# Altium footprint library LCC - LeadlessChipCarriers.PcbLib: 8 footprints
Each footprint in its own frame and in the unit in brackets; x right, y up, seen from the top. Pads: shape width x height; smd on the part's side, far side on the other; paste and mask are expansions set on the pad; w line width, h text height; cw(c..) or ccw(c..) is an arc to the next point about the centre after c.
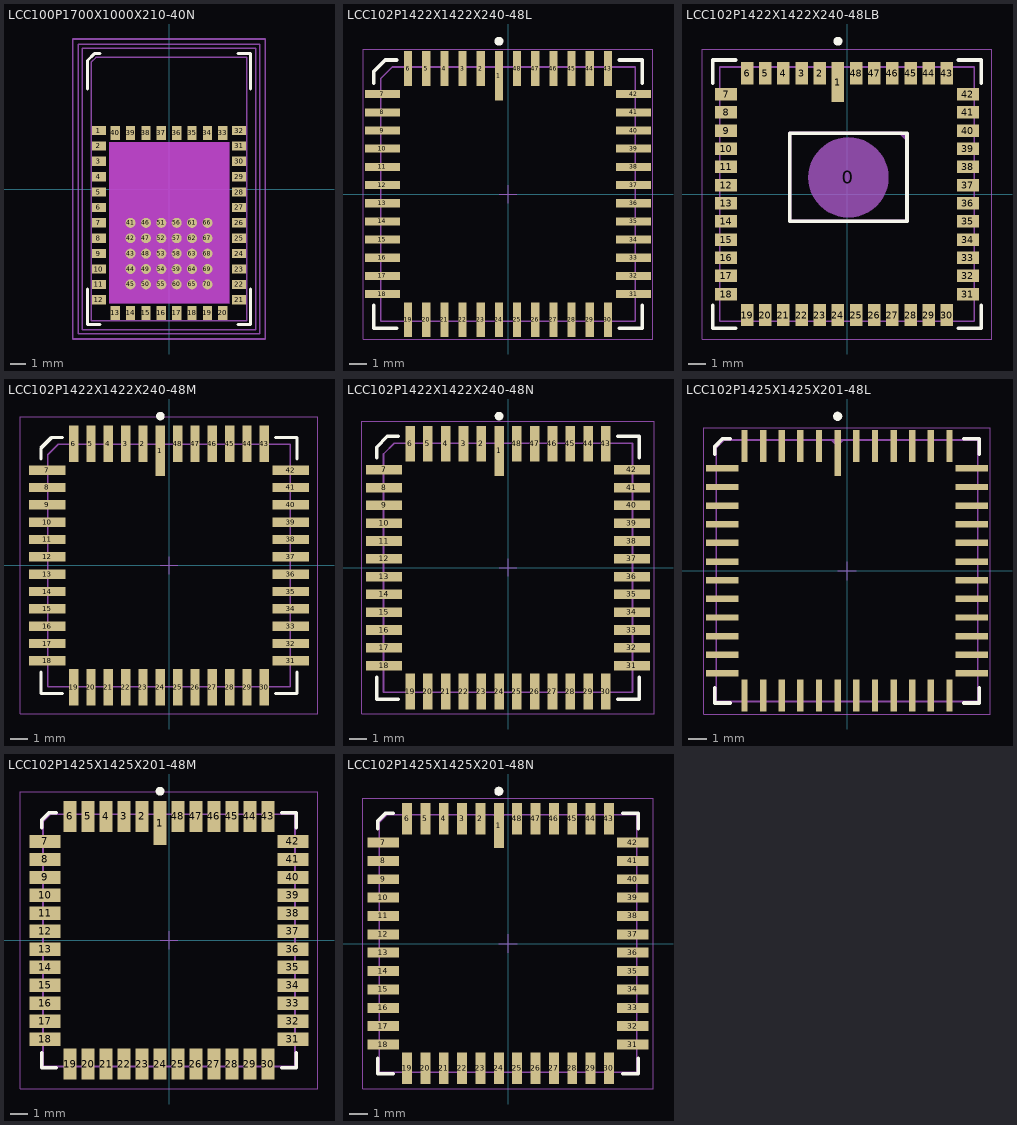
[diagram p0: the footprints below, top view; thin cyan lines are the x and y axes]

## LCC100P1700X1000X210-40N [mm] "LCC, 40-Pins, Body 17.0x10.0mm (max), Pitch 1.00mm, IPC Medium Density"
height 2.1
pads (70):
  rect 0.9x0.6 smd: 1(-4.55,3.8) 2(-4.55,2.8) 3(-4.55,1.8) 4(-4.55,0.8) 5(-4.55,-0.2) 6(-4.55,-1.2) 7(-4.55,-2.2) 8(-4.55,-3.2) 9(-4.55,-4.2) 10(-4.55,-5.2) 11(-4.55,-6.2) 12(-4.55,-7.2) 21(4.55,-7.2) 22(4.55,-6.2) 23(4.55,-5.2) 24(4.55,-4.2) 25(4.55,-3.2) 26(4.55,-2.2) 27(4.55,-1.2) 28(4.55,-0.2) 29(4.55,0.8) 30(4.55,1.8) 31(4.55,2.8) 32(4.55,3.8)
  rect 0.6x0.9 smd: 13(-3.5,-8.05) 14(-2.5,-8.05) 15(-1.5,-8.05) 16(-0.5,-8.05) 17(0.5,-8.05) 18(1.5,-8.05) 19(2.5,-8.05) 20(3.5,-8.05) 33(3.5,3.65) 34(2.5,3.65) 35(1.5,3.65) 36(0.5,3.65) 37(-0.5,3.65) 38(-1.5,3.65) 39(-2.5,3.65) 40(-3.5,3.65)
  round 0.65 smd: 41(-2.5,-2.2) 42(-2.5,-3.2) 43(-2.5,-4.2) 44(-2.5,-5.2) 45(-2.5,-6.2) 46(-1.5,-2.2) 47(-1.5,-3.2) 48(-1.5,-4.2) 49(-1.5,-5.2) 50(-1.5,-6.2) 51(-0.5,-2.2) 52(-0.5,-3.2) 53(-0.5,-4.2) 54(-0.5,-5.2) 55(-0.5,-6.2) 56(0.5,-2.2) 57(0.5,-3.2) 58(0.5,-4.2) 59(0.5,-5.2) 60(0.5,-6.2) 61(1.5,-2.2) 62(1.5,-3.2) 63(1.5,-4.2) 64(1.5,-5.2) 65(1.5,-6.2) 66(2.5,-2.2) 67(2.5,-3.2) 68(2.5,-4.2) 69(2.5,-5.2) 70(2.5,-6.2)
Top Overlay:
  lines w0.2: -5.3,-6.5 -5.3,-8.8 -4.5,-8.8 ; -5.3,6.5 -5.3,8.35 -4.85,8.8 -4.5,8.8 ; 4.5,-8.8 5.3,-8.8 5.3,-6.5 ; 4.5,8.8 5.3,8.8 5.3,6.5
Outline keep-out:
  region: -3.9,-7.425 -3.9,3.05 3.9,3.05 3.9,-7.425
TopBody:
  lines w0.1: -5.05,-8.55 5.05,-8.55 5.05,8.55 -4.75,8.55 -5.05,8.25 -5.05,-8.55
  text ".Designator" at -0.825,-0.175 h0.5
TopCourtyard:
  lines w0.1: -0.5,0 0,0 ; 0,-0.5 0,0 ; 0,0.5 0,0 ; 0.5,0 0,0 ; -6.25,-9.75 -6.25,9.75 6.25,9.75 6.25,-9.75 -6.25,-9.75 ; -5.9,-9.4 5.9,-9.4 5.9,9.4 -5.9,9.4 -5.9,-9.4 ; -5.65,-9.15 5.65,-9.15 5.65,9.15 -5.65,9.15 -5.65,-9.15
3D body: height 2.1, standoff 0, extent -5.05,-8.55 5.05,8.55

## LCC102P1422X1422X240-48L [mm] "LCC, 48-Pins, Body 15.0x15.0mm (max), Pitch 1.02mm, IPC High Density"
height 2.4
pads (48):
  rect 0.45x2.75 smd: 1(-0.508,6.625)
  rect 0.45x1.95 smd: 2(-1.524,7.025) 3(-2.54,7.025) 4(-3.556,7.025) 5(-4.572,7.025) 6(-5.588,7.025) 19(-5.588,-7.025) 20(-4.572,-7.025) 21(-3.556,-7.025) 22(-2.54,-7.025) 23(-1.524,-7.025) 24(-0.508,-7.025) 25(0.508,-7.025) 26(1.524,-7.025) 27(2.54,-7.025) 28(3.556,-7.025) 29(4.572,-7.025) 30(5.588,-7.025) 43(5.588,7.025) 44(4.572,7.025) 45(3.556,7.025) 46(2.54,7.025) 47(1.524,7.025) 48(0.508,7.025)
  rect 1.95x0.45 smd: 7(-7.025,5.588) 8(-7.025,4.572) 9(-7.025,3.556) 10(-7.025,2.54) 11(-7.025,1.524) 12(-7.025,0.508) 13(-7.025,-0.508) 14(-7.025,-1.524) 15(-7.025,-2.54) 16(-7.025,-3.556) 17(-7.025,-4.572) 18(-7.025,-5.588) 31(7.025,-5.588) 32(7.025,-4.572) 33(7.025,-3.556) 34(7.025,-2.54) 35(7.025,-1.524) 36(7.025,-0.508) 37(7.025,0.508) 38(7.025,1.524) 39(7.025,2.54) 40(7.025,3.556) 41(7.025,4.572) 42(7.025,5.588)
Top Overlay:
  circle w0.25: c-0.508,8.55 r0.125
  lines w0.2: -7.5,-6.215 -7.5,-7.5 -6.215,-7.5 ; -7.5,6.215 -7.5,6.857 -6.857,7.5 -6.215,7.5 ; 6.215,-7.5 7.5,-7.5 7.5,-6.215 ; 6.215,7.5 7.5,7.5 7.5,6.215
TopBody:
  lines w0.1: -7.11,-7.11 7.11,-7.11 7.11,7.11 -6.468,7.11 -7.11,6.468 -7.11,-7.11
TopCourtyard:
  lines w0.05: -0.5,0 0.5,0 ; 0,-0.5 0,0.5 ; -8.1,-8.1 8.1,-8.1 8.1,8.1 -8.1,8.1 -8.1,-8.1
3D body: height 2.4, standoff 0, extent -7.11,-7.11 7.11,7.11

## LCC102P1422X1422X240-48LB [mm] "MT9T001 Camera LCC, 48-Pins, Body 15.0x15.0mm (max), Pitch 1.02mm, IPC High Density"
height 2.4
pads (49):
  round 4.5 on Mech15: 0(0.078,0.934)
  rect 0.7x2.244 smd: 1(-0.508,6.262)
  rect 0.7x1.244 smd: 2(-1.524,6.76) 3(-2.54,6.76) 4(-3.556,6.76) 5(-4.572,6.76) 6(-5.588,6.76) 19(-5.588,-6.76) 20(-4.572,-6.76) 21(-3.556,-6.76) 22(-2.54,-6.76) 23(-1.524,-6.76) 24(-0.508,-6.76) 25(0.508,-6.76) 26(1.524,-6.76) 27(2.54,-6.76) 28(3.556,-6.76) 29(4.572,-6.76) 30(5.588,-6.76) 43(5.588,6.76) 44(4.572,6.76) 45(3.556,6.76) 46(2.54,6.76) 47(1.524,6.76) 48(0.508,6.76)
  rect 1.244x0.7 smd: 7(-6.76,5.588) 8(-6.76,4.572) 9(-6.76,3.556) 10(-6.76,2.54) 11(-6.76,1.524) 12(-6.76,0.508) 13(-6.76,-0.508) 14(-6.76,-1.524) 15(-6.76,-2.54) 16(-6.76,-3.556) 17(-6.76,-4.572) 18(-6.76,-5.588) 31(6.76,-5.588) 32(6.76,-4.572) 33(6.76,-3.556) 34(6.76,-2.54) 35(6.76,-1.524) 36(6.76,-0.508) 37(6.76,0.508) 38(6.76,1.524) 39(6.76,2.54) 40(6.76,3.556) 41(6.76,4.572) 42(6.76,5.588)
Top Overlay:
  circle w0.25: c-0.508,8.55 r0.125
  lines w0.2: -7.5,-6.215 -7.5,-7.5 -6.215,-7.5 ; -7.5,6.215 -7.5,7.5 -6.215,7.5 ; 6.215,-7.5 7.5,-7.5 7.5,-6.215 ; 6.215,7.5 7.5,7.5 7.5,6.215 ; -3.197,-1.526 -3.197,3.394 3.353,3.394 3.353,-1.526 -3.197,-1.526
TopBody:
  lines w0.1: -7.11,-7.11 7.11,-7.11 7.11,7.11 -7.11,7.11 -7.11,-7.11
  lines w0.2: -3.197,-1.526 3.353,-1.526 3.353,3.072 3.031,3.394 -3.197,3.394 -3.197,-1.526
  text "Top" at -1,4.5 h0.6
  text "Bottom" at -1.5,-3.5 h0.6
TopCourtyard:
  lines w0.05: -0.5,0 0,0 ; -0.422,0.934 0.078,0.934 ; 0,-0.5 0,0 ; 0,0.5 0,0 ; 0.078,0.434 0.078,0.934 ; 0.078,1.434 0.078,0.934 ; 0.5,0 0,0 ; 0.578,0.934 0.078,0.934 ; -8.1,-8.1 8.1,-8.1 8.1,8.1 -8.1,8.1 -8.1,-8.1
  text "Mechanical center" at -9,-1.5 h1.2
  text "Optical center" at 0.5,1.5 h1.2
3D body: height 2.41, standoff 0, extent -3.198,-1.527 3.354,3.395
3D body: height 2.4, standoff 0, extent -7.11,-7.11 7.11,7.11

## LCC102P1422X1422X240-48M [mm] "LCC, 48-Pins, Body 15.0x15.0mm (max), Pitch 1.02mm, IPC Low Density"
height 2.4
pads (48):
  rect 0.55x2.95 smd: 1(-0.508,6.725)
  rect 0.55x2.15 smd: 2(-1.524,7.125) 3(-2.54,7.125) 4(-3.556,7.125) 5(-4.572,7.125) 6(-5.588,7.125) 19(-5.588,-7.125) 20(-4.572,-7.125) 21(-3.556,-7.125) 22(-2.54,-7.125) 23(-1.524,-7.125) 24(-0.508,-7.125) 25(0.508,-7.125) 26(1.524,-7.125) 27(2.54,-7.125) 28(3.556,-7.125) 29(4.572,-7.125) 30(5.588,-7.125) 43(5.588,7.125) 44(4.572,7.125) 45(3.556,7.125) 46(2.54,7.125) 47(1.524,7.125) 48(0.508,7.125)
  rect 2.15x0.55 smd: 7(-7.125,5.588) 8(-7.125,4.572) 9(-7.125,3.556) 10(-7.125,2.54) 11(-7.125,1.524) 12(-7.125,0.508) 13(-7.125,-0.508) 14(-7.125,-1.524) 15(-7.125,-2.54) 16(-7.125,-3.556) 17(-7.125,-4.572) 18(-7.125,-5.588) 31(7.125,-5.588) 32(7.125,-4.572) 33(7.125,-3.556) 34(7.125,-2.54) 35(7.125,-1.524) 36(7.125,-0.508) 37(7.125,0.508) 38(7.125,1.524) 39(7.125,2.54) 40(7.125,3.556) 41(7.125,4.572) 42(7.125,5.588)
Top Overlay:
  circle w0.25: c-0.508,8.75 r0.125
  lines w0.2: -7.5,-6.265 -7.5,-7.5 -6.265,-7.5 ; -7.5,6.265 -7.5,6.883 -6.883,7.5 -6.265,7.5 ; 6.265,-7.5 7.5,-7.5 7.5,-6.265 ; 6.265,7.5 7.5,7.5 7.5,6.265
TopBody:
  lines w0.1: -7.11,-7.11 -7.11,6.492 -6.492,7.11 7.11,7.11 7.11,-7.11 -7.11,-7.11
TopCourtyard:
  lines w0.05: -0.5,0 0.5,0 ; 0,-0.5 0,0.5 ; -8.7,-8.7 -8.7,8.7 8.7,8.7 8.7,-8.7 -8.7,-8.7
3D body: height 2.4, standoff 0, extent -7.11,-7.11 7.11,7.11

## LCC102P1422X1422X240-48N [mm] "LCC, 48-Pins, Body 15.0x15.0mm (max), Pitch 1.02mm, IPC Medium Density"
height 2.4
pads (48):
  rect 0.55x2.85 smd: 1(-0.508,6.675)
  rect 0.55x2.05 smd: 2(-1.524,7.075) 3(-2.54,7.075) 4(-3.556,7.075) 5(-4.572,7.075) 6(-5.588,7.075) 19(-5.588,-7.075) 20(-4.572,-7.075) 21(-3.556,-7.075) 22(-2.54,-7.075) 23(-1.524,-7.075) 24(-0.508,-7.075) 25(0.508,-7.075) 26(1.524,-7.075) 27(2.54,-7.075) 28(3.556,-7.075) 29(4.572,-7.075) 30(5.588,-7.075) 43(5.588,7.075) 44(4.572,7.075) 45(3.556,7.075) 46(2.54,7.075) 47(1.524,7.075) 48(0.508,7.075)
  rect 2.05x0.55 smd: 7(-7.075,5.588) 8(-7.075,4.572) 9(-7.075,3.556) 10(-7.075,2.54) 11(-7.075,1.524) 12(-7.075,0.508) 13(-7.075,-0.508) 14(-7.075,-1.524) 15(-7.075,-2.54) 16(-7.075,-3.556) 17(-7.075,-4.572) 18(-7.075,-5.588) 31(7.075,-5.588) 32(7.075,-4.572) 33(7.075,-3.556) 34(7.075,-2.54) 35(7.075,-1.524) 36(7.075,-0.508) 37(7.075,0.508) 38(7.075,1.524) 39(7.075,2.54) 40(7.075,3.556) 41(7.075,4.572) 42(7.075,5.588)
Top Overlay:
  circle w0.25: c-0.508,8.65 r0.125
  lines w0.2: -7.5,-6.265 -7.5,-7.5 -6.265,-7.5 ; -7.5,6.265 -7.5,6.883 -6.883,7.5 -6.265,7.5 ; 6.265,-7.5 7.5,-7.5 7.5,-6.265 ; 6.265,7.5 7.5,7.5 7.5,6.265
TopBody:
  lines w0.1: -7.11,-7.11 -7.11,6.492 -6.492,7.11 7.11,7.11 7.11,-7.11 -7.11,-7.11
TopCourtyard:
  lines w0.05: -0.5,0 0.5,0 ; 0,-0.5 0,0.5 ; -8.35,-8.35 -8.35,8.35 8.35,8.35 8.35,-8.35 -8.35,-8.35
3D body: height 2.4, standoff 0, extent -7.11,-7.11 7.11,7.11

## LCC102P1425X1425X201-48L [mm] "LCC, 48-Pins, Body 14.4x14.4mm (max), Pitch 1.02mm, IPC High Density"
height 2.007
pads (48):
  rect 0.35x2.5 smd: 1(-0.508,6.425)
  rect 0.35x1.75 smd: 2(-1.524,6.8) 3(-2.54,6.8) 4(-3.556,6.8) 5(-4.572,6.8) 6(-5.588,6.8) 19(-5.588,-6.8) 20(-4.572,-6.8) 21(-3.556,-6.8) 22(-2.54,-6.8) 23(-1.524,-6.8) 24(-0.508,-6.8) 25(0.508,-6.8) 26(1.524,-6.8) 27(2.54,-6.8) 28(3.556,-6.8) 29(4.572,-6.8) 30(5.588,-6.8) 43(5.588,6.8) 44(4.572,6.8) 45(3.556,6.8) 46(2.54,6.8) 47(1.524,6.8) 48(0.508,6.8)
  rect 1.75x0.35 smd: 7(-6.8,5.588) 8(-6.8,4.572) 9(-6.8,3.556) 10(-6.8,2.54) 11(-6.8,1.524) 12(-6.8,0.508) 13(-6.8,-0.508) 14(-6.8,-1.524) 15(-6.8,-2.54) 16(-6.8,-3.556) 17(-6.8,-4.572) 18(-6.8,-5.588) 31(6.8,-5.588) 32(6.8,-4.572) 33(6.8,-3.556) 34(6.8,-2.54) 35(6.8,-1.524) 36(6.8,-0.508) 37(6.8,0.508) 38(6.8,1.524) 39(6.8,2.54) 40(6.8,3.556) 41(6.8,4.572) 42(6.8,5.588)
Top Overlay:
  circle w0.25: c-0.508,8.425 r0.125
  lines w0.2: -7.2,-6.365 -7.2,-7.2 -6.365,-7.2 ; -7.2,6.365 -7.2,6.783 -6.783,7.2 -6.365,7.2 ; 6.365,-7.2 7.2,-7.2 7.2,-6.365 ; 6.365,7.2 7.2,7.2 7.2,6.365
TopBody:
  lines w0.1: -0.825,7.125 -0.525,6.825 -0.225,7.125 ; -0.725,7.125 -0.525,6.925 -0.325,7.125 ; -0.625,7.125 -0.525,7.025 -0.425,7.125 ; -7.125,-7.125 -7.125,6.708 -6.708,7.125 7.125,7.125 7.125,-7.125 -7.125,-7.125
  text ".Designator" at -0.635,-0.254 h0.5
TopCourtyard:
  lines w0.05: -0.5,0 0.5,0 ; 0,-0.5 0,0.5 ; -7.8,-7.8 -7.8,7.8 7.8,7.8 7.8,-7.8 -7.8,-7.8
3D body: height 2.01, standoff 0, extent -7.125,-7.125 7.125,7.125

## LCC102P1425X1425X201-48M [mm] "LCC, 48-Pins, Body 14.4x14.4mm (max), Pitch 1.02mm, IPC Low Density"
height 2.007
pads (48):
  rect 0.75x2.5 smd: 1(-0.508,6.625)
  rect 0.75x1.75 smd: 2(-1.524,7) 3(-2.54,7) 4(-3.556,7) 5(-4.572,7) 6(-5.588,7) 19(-5.588,-7) 20(-4.572,-7) 21(-3.556,-7) 22(-2.54,-7) 23(-1.524,-7) 24(-0.508,-7) 25(0.508,-7) 26(1.524,-7) 27(2.54,-7) 28(3.556,-7) 29(4.572,-7) 30(5.588,-7) 43(5.588,7) 44(4.572,7) 45(3.556,7) 46(2.54,7) 47(1.524,7) 48(0.508,7)
  rect 1.75x0.75 smd: 7(-7,5.588) 8(-7,4.572) 9(-7,3.556) 10(-7,2.54) 11(-7,1.524) 12(-7,0.508) 13(-7,-0.508) 14(-7,-1.524) 15(-7,-2.54) 16(-7,-3.556) 17(-7,-4.572) 18(-7,-5.588) 31(7,-5.588) 32(7,-4.572) 33(7,-3.556) 34(7,-2.54) 35(7,-1.524) 36(7,-0.508) 37(7,0.508) 38(7,1.524) 39(7,2.54) 40(7,3.556) 41(7,4.572) 42(7,5.588)
Top Overlay:
  circle w0.25: c-0.508,8.425 r0.125
  lines w0.2: -7.2,-6.365 -7.2,-7.2 -6.365,-7.2 ; -7.2,6.365 -7.2,6.783 -6.783,7.2 -6.365,7.2 ; 6.365,-7.2 7.2,-7.2 7.2,-6.365 ; 6.365,7.2 7.2,7.2 7.2,6.365
TopBody:
  lines w0.1: -0.8,7.125 -0.5,6.825 -0.2,7.125 ; -0.7,7.125 -0.5,6.925 -0.3,7.125 ; -0.6,7.125 -0.5,7.025 -0.4,7.125 ; -7.125,-7.125 7.125,-7.125 7.125,7.125 -6.708,7.125 -7.125,6.708 -7.125,-7.125
  text ".Designator" at -0.635,-0.254 h0.5
TopCourtyard:
  lines w0.05: -0.5,0 0.5,0 ; 0,-0.5 0,0.5 ; -8.4,-8.4 8.4,-8.4 8.4,8.4 -8.4,8.4 -8.4,-8.4
3D body: height 2.01, standoff 0, extent -7.125,-7.125 7.125,7.125

## LCC102P1425X1425X201-48N [mm] "LCC, 48-Pins, Body 14.4x14.4mm (max), Pitch 1.02mm, IPC Medium Density"
height 2.007
pads (48):
  rect 0.55x2.5 smd: 1(-0.508,6.525)
  rect 0.55x1.75 smd: 2(-1.524,6.9) 3(-2.54,6.9) 4(-3.556,6.9) 5(-4.572,6.9) 6(-5.588,6.9) 19(-5.588,-6.9) 20(-4.572,-6.9) 21(-3.556,-6.9) 22(-2.54,-6.9) 23(-1.524,-6.9) 24(-0.508,-6.9) 25(0.508,-6.9) 26(1.524,-6.9) 27(2.54,-6.9) 28(3.556,-6.9) 29(4.572,-6.9) 30(5.588,-6.9) 43(5.588,6.9) 44(4.572,6.9) 45(3.556,6.9) 46(2.54,6.9) 47(1.524,6.9) 48(0.508,6.9)
  rect 1.75x0.55 smd: 7(-6.9,5.588) 8(-6.9,4.572) 9(-6.9,3.556) 10(-6.9,2.54) 11(-6.9,1.524) 12(-6.9,0.508) 13(-6.9,-0.508) 14(-6.9,-1.524) 15(-6.9,-2.54) 16(-6.9,-3.556) 17(-6.9,-4.572) 18(-6.9,-5.588) 31(6.9,-5.588) 32(6.9,-4.572) 33(6.9,-3.556) 34(6.9,-2.54) 35(6.9,-1.524) 36(6.9,-0.508) 37(6.9,0.508) 38(6.9,1.524) 39(6.9,2.54) 40(6.9,3.556) 41(6.9,4.572) 42(6.9,5.588)
Top Overlay:
  circle w0.25: c-0.508,8.425 r0.125
  lines w0.2: -7.2,-6.365 -7.2,-7.2 -6.365,-7.2 ; -7.2,6.365 -7.2,6.783 -6.783,7.2 -6.365,7.2 ; 6.365,-7.2 7.2,-7.2 7.2,-6.365 ; 6.365,7.2 7.2,7.2 7.2,6.365
TopBody:
  lines w0.1: -0.8,7.125 -0.5,6.825 -0.2,7.125 ; -0.7,7.125 -0.5,6.925 -0.3,7.125 ; -0.6,7.125 -0.5,7.025 -0.4,7.125 ; -7.125,-7.125 -7.125,6.708 -6.708,7.125 7.125,7.125 7.125,-7.125 -7.125,-7.125
  text ".Designator" at -0.635,-0.254 h0.5
TopCourtyard:
  lines w0.05: -0.5,0 0.5,0 ; 0,-0.5 0,0.5 ; -8.05,-8.05 -8.05,8.05 8.05,8.05 8.05,-8.05 -8.05,-8.05
3D body: height 2.01, standoff 0, extent -7.125,-7.125 7.125,7.125